# Altium footprint library SparkFun-Boards.PCBLIB: 38 footprints (part 2 of 3)
Each footprint in its own frame and in the unit in brackets; x right, y up, seen from the top. Pads: shape width x height; smd on the part's side, far side on the other; paste and mask are expansions set on the pad; w line width, h text height; cw(c..) or ccw(c..) is an arc to the next point about the centre after c.
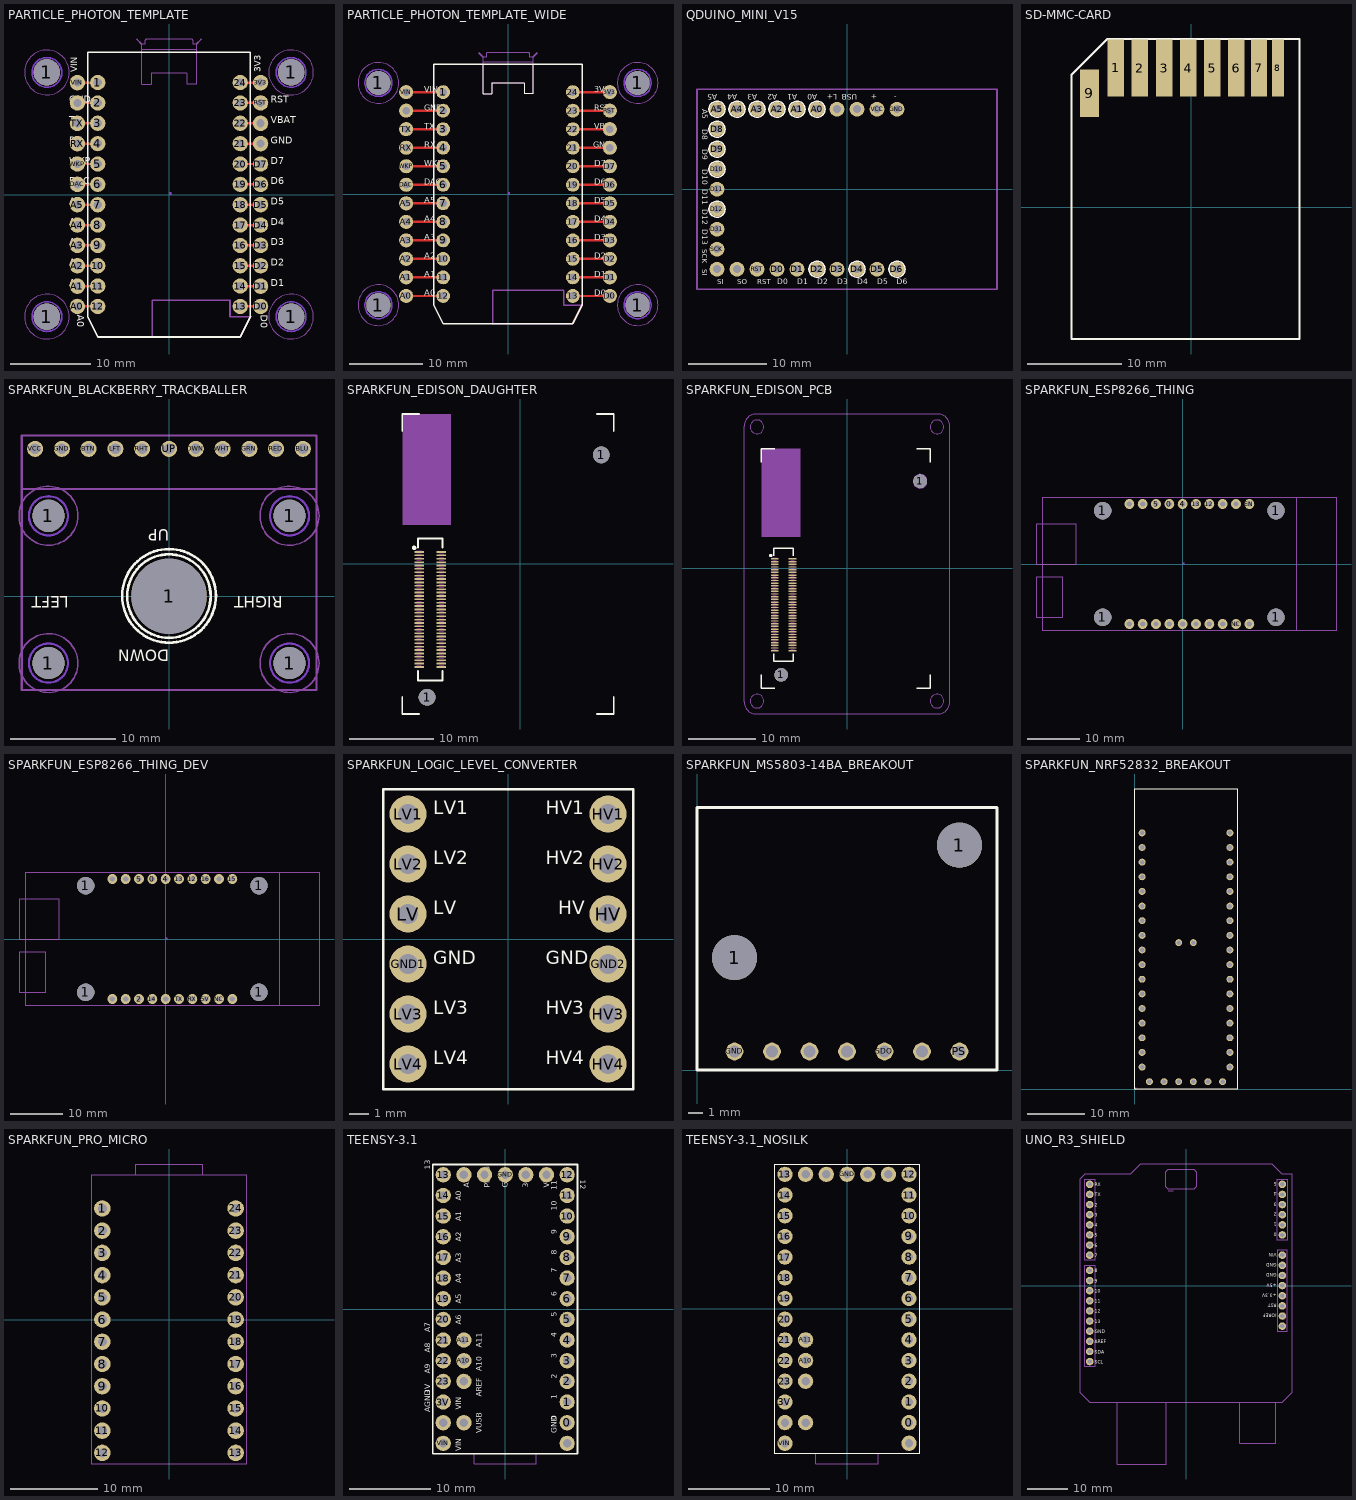
[diagram p1: the footprints below, top view; thin cyan lines are the x and y axes]

## PARTICLE_PHOTON_TEMPLATE [mil]
pads (52):
  round 130 hole 130: 1(-600,-600) 1(-600,600) 1(600,-600) 1(600,600)
  round 75 hole 40: 1(-350,550) 2(-350,450) 3(-350,350) 4(-350,250) 5(-350,150) 6(-350,50) 7(-350,-50) 8(-350,-150) 9(-350,-250) 10(-350,-350) 11(-350,-450) 12(-350,-550) 13(350,-550) 14(350,-450) 15(350,-350) 16(350,-250) 17(350,-150) 18(350,-50) 19(350,50) 20(350,150) 21(350,250) 22(350,350) 23(350,450) 24(350,550)
  round 76 hole 40: 3V3(450,550) A0(-450,-550) A1(-450,-450) A2(-450,-350) A3(-450,-250) A4(-450,-150) A5(-450,-50) D0(450,-550) D1(450,-450) D2(450,-350) D3(450,-250) D4(450,-150) D5(450,-50) D6(450,50) D7(450,150) DAC(-450,50) GND@0(-450,450) GND@2(450,250) RST(450,450) RX(-450,250) TX(-450,350) VBAT(450,350) VIN(-450,550) WKP(-450,150)
Top Layer:
  lines w12: -450,-550 -350,-550 ; -450,-450 -350,-450 ; -450,-350 -350,-350 ; -450,-250 -350,-250 ; -450,-150 -350,-150 ; -450,-50 -350,-50 ; -450,50 -350,50 ; -450,150 -350,150 ; -450,250 -350,250 ; -450,350 -350,350 ; -450,450 -350,450 ; -450,550 -350,550 ; 350,-550 450,-550 ; 350,-450 450,-450 ; 350,-350 450,-350 ; 350,-250 450,-250 ; 350,-150 450,-150 ; 350,-50 450,-50 ; 350,50 450,50 ; 350,150 450,150 ; 350,250 450,250 ; 350,350 450,350 ; 350,450 450,450 ; 350,550 450,550
Top Layer keep-out:
  region: 0,0 10,0 10,10 0,10
  lines w8: -600,-673 ccw(c-600,-600) -600,-527 ccw(c-600,-600) -600,-673 ; -600,527 ccw(c-600,600) -600,673 ccw(c-600,600) -600,527 ; 600,-673 ccw(c600,-600) 600,-527 ccw(c600,-600) 600,-673 ; 600,527 ccw(c600,600) 600,673 ccw(c600,600) 600,527
Bottom Layer keep-out:
  region: 0,0 10,0 10,10 0,10
  lines w8: -600,-673 ccw(c-600,-600) -600,-527 ccw(c-600,-600) -600,-673 ; -600,527 ccw(c-600,600) -600,673 ccw(c-600,600) -600,527 ; 600,-673 ccw(c600,-600) 600,-527 ccw(c600,-600) 600,-673 ; 600,527 ccw(c600,600) 600,673 ccw(c600,600) 600,527
Top Overlay:
  lines w8: 350,-700 -350,-700 -400,-600 -400,700 400,700 400,-600 400,-520
  lines w10: 350,-700 400,-600
  text "GND" at -490,450 h34
  text "TX" at -490,350 h34
  text "RX" at -490,250 h34
  text "WKP" at -490,150 h34
  text "DAC" at -490,50 h34
  text "A5" at -490,-50 h34
  text "A4" at -490,-150 h34
  text "A3" at -490,-250 h34
  text "A2" at -490,-350 h34
  text "A1" at -490,-450 h34
  text "D1" at 500,-450 h34
  text "D2" at 500,-350 h34
  text "D3" at 500,-250 h34
  text "D4" at 500,-150 h34
  text "D5" at 500,-50 h34
  text "D6" at 500,50 h34
  text "D7" at 500,150 h34
  text "GND" at 500,250 h34
  text "VBAT" at 500,350 h34
  text "RST" at 500,450 h34
  text "3V3" at 450,600 h32.3
  text "VIN" at -450,600 h32.3
  text "A0" at -450,-590 h34
  text "D0" at 450,-590 h34
Bottom Overlay:
  text "VIN" at -450,600 h32.3
  text "GND" at -500,450 h34
  text "TX" at -500,350 h34
  text "RX" at -500,250 h34
  text "WKP" at -500,150 h34
  text "DAC" at -500,50 h34
  text "A5" at -500,-50 h34
  text "A4" at -500,-150 h34
  text "A3" at -500,-250 h34
  text "A2" at -500,-350 h34
  text "A1" at -500,-450 h34
  text "D1" at 490,-450 h34
  text "D2" at 490,-350 h34
  text "D3" at 490,-250 h34
  text "D4" at 490,-150 h34
  text "D5" at 490,-50 h34
  text "D6" at 490,50 h34
  text "D7" at 490,150 h34
  text "GND" at 490,250 h34
  text "VBAT" at 490,350 h34
  text "RST" at 490,450 h34
  text "3V3" at 450,600 h32.3
  text "A0" at -450,-590 h34
  text "D0" at 450,-590 h34
Mechanical 16:
  lines w5: -133.86,711.02 -133.86,541.73 -86.61,541.73 -86.61,596.85 86.61,596.85 86.61,541.73 133.86,541.73 133.86,711.02 ; -133.86,711.02 -133.86,738.58 -118.11,738.58 -118.11,756.3 cw(c-108.86,754.82) -108.27,764.17 110.24,764.17 cw(c108.76,754.92) 118.11,754.33 118.11,738.58 133.86,738.58 133.86,711.02 ; -133.86,711.02 133.86,711.02
  lines w8: -157.48,762.2 -133.86,738.58 ; 133.86,738.58 157.48,762.2 ; -82,-700 -82,-520 300,-520 300,-600 400,-600 350,-700 -82,-700
  text "Keepout'" at 150,-600 h34
  text "A0" at -270,-576 h27.2
  text "A1" at -270,-466 h27.2
  text "A2" at -270,-376 h27.2
  text "RX" at -270,223 h27.2
  text "A4" at -270,-176 h27.2
  text "A3" at -270,-274 h27.2
  text "A5" at -270,-76 h27.2
  text "DAC" at -269,1 h27.2
  text "WKP" at -270,114 h27.2
  text "D0" at 269,-524 h27.2
  text "D1" at 269,-427 h27.2
  text "D2" at 269,-324 h27.2
  text "D3" at 269,-224 h27.2
  text "D4" at 269,-123 h27.2
  text "D5" at 269,-24 h27.2
  text "D6" at 269,76 h27.2
  text "D7" at 269,176 h27.2
  text "GND" at 268,284 h27.2
  text "VBAT" at 269,404 h25.5
  text "RST" at 268,495 h27.2
  text "3V3" at 269,592 h27.2
  text "TX" at -270,325 h27.2
  text "GND" at -270,409 h27.2
  text "VIN" at -270,513 h27.2
Mechanical 27:
  circle w5: c-600,600 r110
  circle w5: c600,600 r110
  circle w5: c-600,-600 r110
  circle w5: c600,-600 r110

## PARTICLE_PHOTON_TEMPLATE_WIDE [mil]
pads (52):
  round 130 hole 130: 1(-700,-600) 1(-700,600) 1(700,-600) 1(700,600)
  round 75 hole 40: 1(-350,550) 2(-350,450) 3(-350,350) 4(-350,250) 5(-350,150) 6(-350,50) 7(-350,-50) 8(-350,-150) 9(-350,-250) 10(-350,-350) 11(-350,-450) 12(-350,-550) 13(350,-550) 14(350,-450) 15(350,-350) 16(350,-250) 17(350,-150) 18(350,-50) 19(350,50) 20(350,150) 21(350,250) 22(350,350) 23(350,450) 24(350,550)
  round 76 hole 40: 3V3(550,550) A0(-550,-550) A1(-550,-450) A2(-550,-350) A3(-550,-250) A4(-550,-150) A5(-550,-50) D0(550,-550) D1(550,-450) D2(550,-350) D3(550,-250) D4(550,-150) D5(550,-50) D6(550,50) D7(550,150) DAC(-550,50) GND@0(-550,450) GND@2(550,250) RST(550,450) RX(-550,250) TX(-550,350) VBAT(550,350) VIN(-550,550) WKP(-550,150)
Top Layer:
  lines w12: -550,-550 -350,-550 ; -550,-450 -350,-450 ; -550,-350 -350,-350 ; -550,-250 -350,-250 ; -550,-150 -350,-150 ; -550,-50 -350,-50 ; -550,50 -350,50 ; -550,150 -350,150 ; -550,250 -350,250 ; -550,350 -350,350 ; -550,450 -350,450 ; -550,550 -350,550 ; 350,-550 550,-550 ; 350,-450 550,-450 ; 350,-350 550,-350 ; 350,-250 550,-250 ; 350,-150 550,-150 ; 350,-50 550,-50 ; 350,50 550,50 ; 350,150 550,150 ; 350,250 550,250 ; 350,350 550,350 ; 350,450 550,450 ; 350,550 550,550
Top Layer keep-out:
  region: 0,0 10,0 10,10 0,10
  lines w8: -700,-673 ccw(c-700,-600) -700,-527 ccw(c-700,-600) -700,-673 ; -700,527 ccw(c-700,600) -700,673 ccw(c-700,600) -700,527 ; 700,-673 ccw(c700,-600) 700,-527 ccw(c700,-600) 700,-673 ; 700,527 ccw(c700,600) 700,673 ccw(c700,600) 700,527
Bottom Layer keep-out:
  region: 0,0 10,0 10,10 0,10
  lines w8: -700,-673 ccw(c-700,-600) -700,-527 ccw(c-700,-600) -700,-673 ; -700,527 ccw(c-700,600) -700,673 ccw(c-700,600) -700,527 ; 700,-673 ccw(c700,-600) 700,-527 ccw(c700,-600) 700,-673 ; 700,527 ccw(c700,600) 700,673 ccw(c700,600) 700,527
Top Overlay:
  lines w5: -133.86,700 -133.86,541.73 -86.61,541.73 -86.61,596.85 86.61,596.85 86.61,541.73 133.86,541.73 133.86,700
  lines w8: 350,-700 -350,-700 -400,-600 -400,700 -133.86,700 133.86,700 400,700 400,-600 400,-520
  lines w10: 350,-700 400,-600
  text "GND" at -452.5,450 h32.3
  text "TX" at -452.5,350 h34
  text "RX" at -452.5,250 h34
  text "WKP" at -452.5,150 h32.3
  text "DAC" at -452.5,50 h32.3
  text "A5" at -452.5,-50 h34
  text "A4" at -452.5,-150 h34
  text "A3" at -452.5,-250 h34
  text "A2" at -452.5,-350 h34
  text "A1" at -452.5,-450 h34
  text "D1" at 465,-450 h34
  text "D2" at 465,-350 h34
  text "D3" at 465,-250 h34
  text "D4" at 465,-150 h34
  text "D5" at 465,-50 h34
  text "D6" at 465,50 h34
  text "D7" at 465,150 h34
  text "GND" at 460,250 h32.3
  text "VBT" at 465,350 h32.3
  text "RST" at 465,450 h32.3
  text "A0" at -452.5,-550 h34
  text "VIN" at -452.5,550 h32.3
  text "3V3" at 465,550 h32.3
  text "D0" at 465,-550 h34
Bottom Overlay:
  text "GND" at -455,450 h32.3
  text "TX" at -455,350 h34
  text "RX" at -455,250 h34
  text "WKP" at -455,150 h34
  text "DAC" at -455,50 h34
  text "A5" at -455,-50 h34
  text "A4" at -455,-150 h34
  text "A3" at -455,-250 h34
  text "A2" at -455,-350 h34
  text "A1" at -455,-450 h34
  text "D1" at 455,-450 h34
  text "D2" at 455,-350 h34
  text "D3" at 455,-250 h34
  text "D4" at 455,-150 h34
  text "D5" at 455,-50 h34
  text "D6" at 455,50 h34
  text "D7" at 455,150 h34
  text "GND" at 455,250 h32.3
  text "VBAT" at 450,350 h27.2
  text "RST" at 455,450 h34
  text "A0" at -455,-550 h34
  text "VIN" at -455,550 h34
  text "3V3" at 455,550 h34
  text "D0" at 455,-550 h34
Mechanical 16:
  lines w5: -133.86,711.02 -133.86,541.73 -86.61,541.73 -86.61,596.85 86.61,596.85 86.61,541.73 133.86,541.73 133.86,711.02 ; -133.86,711.02 -133.86,738.58 -118.11,738.58 -118.11,756.3 cw(c-108.86,754.82) -108.27,764.17 110.24,764.17 cw(c108.76,754.92) 118.11,754.33 118.11,738.58 133.86,738.58 133.86,711.02 ; -133.86,711.02 133.86,711.02
  lines w8: -157.48,762.2 -133.86,738.58 ; 133.86,738.58 157.48,762.2 ; -82,-700 -82,-520 300,-520 300,-600 400,-600 350,-700 -82,-700
  text "Keepout'" at 150,-600 h34
  text "A0" at -270,-576 h27.2
  text "A1" at -270,-466 h27.2
  text "A2" at -270,-376 h27.2
  text "RX" at -270,223 h27.2
  text "A4" at -270,-176 h27.2
  text "A3" at -270,-274 h27.2
  text "A5" at -270,-76 h27.2
  text "DAC" at -269,1 h27.2
  text "WKP" at -270,114 h27.2
  text "D0" at 269,-524 h27.2
  text "D1" at 269,-427 h27.2
  text "D2" at 269,-324 h27.2
  text "D3" at 269,-224 h27.2
  text "D4" at 269,-123 h27.2
  text "D5" at 269,-24 h27.2
  text "D6" at 269,76 h27.2
  text "D7" at 269,176 h27.2
  text "GND" at 268,284 h27.2
  text "VBAT" at 269,404 h25.5
  text "RST" at 268,495 h27.2
  text "3V3" at 269,592 h27.2
  text "TX" at -270,325 h27.2
  text "GND" at -270,409 h27.2
  text "VIN" at -270,513 h27.2
Mechanical 27:
  circle w5: c-700,600 r110
  circle w5: c700,600 r110
  circle w5: c-700,-600 r110
  circle w5: c700,-600 r110

## QDUINO_MINI_V15 [mil]
pads (27):
  round 74 hole 40: A0(-150,400) A1(-250,400) A2(-350,400) A3(-450,400) A4(-550,400) A5(-650,400) D0(-350,-400) D1(-250,-400) D2(-150,-400) D3(-50,-400) D4(50,-400) D5(150,-400) D6(250,-400) D8(-650,300) D9(-650,200) D10(-650,100) D11(-650,0) D12(-650,-100) D31(-650,-200) GND(250,400) LIPO(-50,400) MISO(-550,-400) MOSI(-650,-400) RST(-450,-400) SCK(-650,-300) VCC(150,400) VUSB(50,400)
Top Overlay:
  circle w8: c-650,200 r40
  circle w8: c-650,100 r40
  circle w8: c-650,-100 r40
  circle w8: c250,-400 r40
  circle w8: c-650,300 r40
  circle w8: c-150,-400 r40
  circle w8: c-150,400 r40
  circle w8: c-250,400 r40
  circle w8: c-350,400 r40
  circle w8: c-450,400 r40
  circle w8: c-550,400 r40
  circle w8: c-650,400 r40
  circle w8: c50,-400 r40
  text "A5" at -650,475 h27.2
  text "A4" at -550,475 h27.2
  text "A3" at -450,475 h27.2
  text "A2" at -350,475 h27.2
  text "A1" at -250,475 h27.2
  text "A0" at -150,475 h27.2
  text "L+" at -50,475 h27.2
  text "USB" at 50,475 h27.2
  text "+" at 150,475 h27.2
  text "-" at 250,475 h27.2
  text "D8" at -725,300 h27.2
  text "D9" at -725,200 h27.2
  text "D10" at -725,100 h27.2
  text "D11" at -725,0 h27.2
  text "D12" at -725,-100 h27.2
  text "D13" at -725,-200 h27.2
  text "SCK" at -725,-300 h25.5
  text "SI" at -650,-475 h25.5
  text "SO" at -550,-475 h25.5
  text "D0" at -350,-475 h27.2
  text "D1" at -250,-475 h27.2
  text "D2" at -150,-475 h27.2
  text "D3" at -50,-475 h27.2
  text "D4" at 50,-475 h27.2
  text "D5" at 150,-475 h27.2
  text "D6" at 250,-475 h27.2
  text "A5" at -725,400 h27.2
  text "RST" at -450,-475 h25.5
  text "SI" at -725,-400 h25.5
Bottom Overlay:
  drawing of 186 lines, arcs and shapes, not listed
  text "A4" at -550,336.5 h27.2
  text "A3" at -450,336.5 h27.2
  text "A2" at -350,336.5 h27.2
  text "A1" at -250,336.5 h27.2
  text "A0" at -150,336.5 h27.2
  text "VCC" at 150,336.5 h27.2
  text "GND" at 250,336.5 h27.2
  text "D9" at -561.5,200 h27.2
  text "D10" at -536.5,85 h27.2
  text "D11" at -536.5,0 h27.2
  text "D12" at -536.5,-96.5 h27.2
  text "RST" at -450,-336.5 h27.2
  text "RX" at -340,-336.5 h27.2
  text "TX" at -250,-336.5 h27.2
  text "SDA" at -150,-336.5 h27.2
  text "SCL" at -50,-336.5 h27.2
  text "D4" at 50,-316.5 h27.2
  text "D5" at 150,-306.5 h27.2
  text "D6" at 250,-336.5 h27.2
  text "Qduino Mini" at 595,10 h59.5
  text "USB+" at 50,336.5 h27.2
  text "LIPO+" at -50,336.5 h27.2
  text "I2C" at -105,-110 h27.2
  text "UART" at -305,-155 h27.2
  text "~" at -480,70 h27.2
  text "~" at -525,205 h27.2
  text "~" at 235,-255 h27.2
  text "~" at 135,-225 h27.2
  text "Analog ADC" at 405,-330 h27.2
  text "~" at 350,-365 h27.2
  text "PWM" at 360,-430 h27.2
  text "D13" at -536.5,-161.5 h27.2
  text "~" at -485,-175 h27.2
  text "~" at -480,-15 h27.2
  text "SPI" at -550,-300 h27.2
  text "~" at -60,-240 h27.2
  text "D8" at -725,300 h27.2
  text "D9" at -725,200 h27.2
  text "D10" at -725,100 h27.2
  text "D11" at -725,0 h27.2
  text "D12" at -725,-100 h27.2
  text "D13" at -725,-200 h27.2
  text "SCK" at -725,-300 h25.5
  text "A5" at -725,400 h27.2
  text "SI" at -725,-400 h25.5
  text "SI" at -650,-475 h25.5
  text "SO" at -550,-475 h25.5
  text "D0" at -350,-475 h27.2
  text "D1" at -250,-475 h27.2
  text "D2" at -150,-475 h27.2
  text "D3" at -50,-475 h27.2
  text "D4" at 50,-475 h27.2
  text "D5" at 150,-475 h27.2
  text "D6" at 250,-475 h27.2
  text "RST" at -450,-475 h25.5
  text "A5" at -650,475 h27.2
  text "A4" at -550,475 h27.2
  text "A3" at -450,475 h27.2
  text "A2" at -350,475 h27.2
  text "A1" at -250,475 h27.2
  text "A0" at -150,475 h27.2
  text "L+" at -40,475 h27.2
  text "USB" at 50,475 h27.2
  text "+" at 150,475 h27.2
  text "-" at 250,475 h27.2
Mechanical 16:
  rectangle: -60,390 -40,410
  rectangle: -160,390 -140,410
  rectangle: -260,390 -240,410
  rectangle: -360,390 -340,410
  rectangle: -460,390 -440,410
  rectangle: -560,390 -540,410
  rectangle: -660,390 -640,410
  rectangle: 40,390 60,410
  rectangle: 140,390 160,410
  rectangle: 240,390 260,410
  rectangle: -60,-410 -40,-390
  rectangle: -160,-410 -140,-390
  rectangle: -260,-410 -240,-390
  rectangle: -360,-410 -340,-390
  rectangle: -460,-410 -440,-390
  rectangle: -560,-410 -540,-390
  rectangle: -660,-410 -640,-390
  rectangle: 40,-410 60,-390
  rectangle: 140,-410 160,-390
  rectangle: 240,-410 260,-390
  region: -640,290 -640,310 -660,310 -660,290
  region: -640,190 -640,210 -660,210 -660,190
  region: -640,90 -640,110 -660,110 -660,90
  region: -640,-10 -640,10 -660,10 -660,-10
  region: -640,-110 -640,-90 -660,-90 -660,-110
  region: -640,-210 -640,-190 -660,-190 -660,-210
  region: -640,-310 -640,-290 -660,-290 -660,-310
  lines w8: -750,-500 -750,500 750,500 750,-500 -750,-500

## SD-MMC-CARD [mm]
pads (9):
  rect 1.75x6 smd: 1(-8.015,14.713) 2(-5.465,14.703) 3(-2.87,14.703) 4(-0.34,14.703) 5(2.195,14.703) 6(4.76,14.703)
  rect 1.65x6 smd: 7(7.16,14.703)
  rect 1.25x6 smd: 8(9.16,14.703)
  rect 2x5 smd: 9(-10.8,12.03)
Top Overlay:
  lines w0.203: -12.7,14.03 -12.7,-13.97 ; 11.3,-13.97 -12.7,-13.97 ; -12.7,-13.97 -12.7,13.97 -8.89,17.78 11.43,17.78 11.43,-13.97 -12.7,-13.97

## SPARKFUN_BLACKBERRY_TRACKBALLER [mil]
pads (16):
  round 120 hole 120: 1(-450,-250) 1(-450,300) 1(450,-250) 1(450,300)
  round 281.25 hole 281.25: 1(0,0)
  round 60 hole 40: BLU(500,550) BTN(-300,550) DWN(100,550) GND(-400,550) GRN(300,550) LFT(-200,550) RED(400,550) RHT(-100,550) UP(0,550) VCC(-500,550) WHT(200,550)
Top Layer keep-out:
  lines w8: -450,-323 ccw(c-450,-250) -450,-177 ccw(c-450,-250) -450,-323 ; -450,227 ccw(c-450,300) -450,373 ccw(c-450,300) -450,227 ; 450,-323 ccw(c450,-250) 450,-177 ccw(c450,-250) 450,-323 ; 450,227 ccw(c450,300) 450,373 ccw(c450,300) 450,227
Bottom Layer keep-out:
  lines w8: -450,-323 ccw(c-450,-250) -450,-177 ccw(c-450,-250) -450,-323 ; -450,227 ccw(c-450,300) -450,373 ccw(c-450,300) -450,227 ; 450,-323 ccw(c450,-250) 450,-177 ccw(c450,-250) 450,-323 ; 450,227 ccw(c450,300) 450,373 ccw(c450,300) 450,227
Top Overlay:
  circle w10: c-0.3,0.1 r155.9
  circle w10: c0.3,1.1 r174.97
  region: 0,0 10,0 10,10 0,10
  region: 0,0 10,0 10,10 0,10
  text "UP" at 0,250 h42.5
  text "RIGHT" at 425,0 h42.5
  text "LEFT" at -375,0 h42.5
  text "DOWN" at 0,-200 h42.5
Mechanical 16:
  lines w8: -550,400 550,400 ; -550,400 -550,-350 550,-350 550,400 ; -550,400 -550,600 550,600 550,400
  text "Top Mounting Board" at 0,-300 h34
  text "Bottom Mounting Board" at 0,450 h34
Mechanical 27:
  circle w5: c-450,300 r110
  circle w5: c450,300 r110
  circle w5: c-450,-250 r110
  circle w5: c450,-250 r110

## SPARKFUN_EDISON_DAUGHTER [mm]
pads (72):
  rect 1.14x0.2 smd: 1(-11.99,1.39) 2(-9.35,1.39) 3(-11.99,0.99) 4(-9.35,0.99) 5(-11.99,0.59) 6(-9.35,0.59) 7(-11.99,0.19) 8(-9.35,0.19) 9(-11.99,-0.21) 10(-9.35,-0.21) 11(-11.99,-0.61) 12(-9.35,-0.61) 13(-11.99,-1.01) 14(-9.35,-1.01) 15(-11.99,-1.41) 16(-9.35,-1.41) 17(-11.99,-1.81) 18(-9.35,-1.81) 19(-11.99,-2.21) 20(-9.35,-2.21) 21(-11.99,-2.61) 22(-9.35,-2.61) 23(-11.99,-3.01) 24(-9.35,-3.01) 25(-11.99,-3.41) 26(-9.35,-3.41) 27(-11.99,-3.81) 28(-9.35,-3.81) 29(-11.99,-4.21) 30(-9.35,-4.21) 31(-11.99,-4.61) 32(-9.35,-4.61) 33(-11.99,-5.01) 34(-9.35,-5.01) 35(-11.99,-5.41) 36(-9.35,-5.41) 37(-11.99,-5.81) 38(-9.35,-5.81) 39(-11.99,-6.21) 40(-9.35,-6.21) 41(-11.99,-6.61) 42(-9.35,-6.61) 43(-11.99,-7.01) 44(-9.35,-7.01) 45(-11.99,-7.41) 46(-9.35,-7.41) 47(-11.99,-7.81) 48(-9.35,-7.81) 49(-11.99,-8.21) 50(-9.35,-8.21) 51(-11.99,-8.61) 52(-9.35,-8.61) 53(-11.99,-9.01) 54(-9.35,-9.01) 55(-11.99,-9.41) 56(-9.35,-9.41) 57(-11.99,-9.81) 58(-9.35,-9.81) 59(-11.99,-10.21) 60(-9.35,-10.21) 61(-11.99,-10.61) 62(-9.35,-10.61) 63(-11.99,-11.01) 64(-9.35,-11.01) 65(-11.99,-11.41) 66(-9.35,-11.41) 67(-11.99,-11.81) 68(-9.35,-11.81) 69(-11.99,-12.21) 70(-9.35,-12.21)
  round 2 hole 2: 1(-11.04,-15.8) 1(9.56,12.89)
Top Layer keep-out:
  lines w0.025: -12.307,1.539 -11.673,1.539
  lines w0.051: -12.246,-12.01 -11.734,-12.01 ; -12.246,-11.61 -11.734,-11.61 ; -12.246,-11.21 -11.734,-11.21 ; -12.246,-10.81 -11.734,-10.81 ; -12.246,-10.41 -11.734,-10.41 ; -12.246,-10.01 -11.734,-10.01 ; -12.246,-9.61 -11.734,-9.61 ; -12.246,-9.21 -11.734,-9.21 ; -12.246,-8.81 -11.734,-8.81 ; -12.246,-8.41 -11.734,-8.41 ; -12.246,-8.01 -11.734,-8.01 ; -12.246,-7.61 -11.734,-7.61 ; -12.246,-7.21 -11.734,-7.21 ; -12.246,-6.81 -11.734,-6.81 ; -12.246,-6.41 -11.734,-6.41 ; -12.246,-6.01 -11.734,-6.01 ; -12.246,-5.61 -11.734,-5.61 ; -12.246,-5.21 -11.734,-5.21 ; -12.246,-4.81 -11.734,-4.81 ; -12.246,-4.41 -11.734,-4.41 ; -12.246,-4.01 -11.734,-4.01 ; -12.246,-3.61 -11.734,-3.61 ; -12.246,-3.21 -11.734,-3.21 ; -12.246,-2.81 -11.734,-2.81 ; -12.246,-2.41 -11.734,-2.41 ; -12.246,-2.01 -11.734,-2.01 ; -12.246,-1.61 -11.734,-1.61 ; -12.246,-1.21 -11.734,-1.21 ; -12.246,-0.81 -11.734,-0.81 ; -12.246,-0.41 -11.734,-0.41 ; -12.246,-0.01 -11.734,-0.01 ; -12.246,0.39 -11.734,0.39 ; -12.246,0.79 -11.734,0.79 ; -12.246,1.19 -11.734,1.19 ; -9.601,-12.01 -9.089,-12.01 ; -9.601,-11.61 -9.089,-11.61 ; -9.601,-11.21 -9.089,-11.21 ; -9.601,-10.81 -9.089,-10.81 ; -9.601,-10.41 -9.089,-10.41 ; -9.601,-10.01 -9.089,-10.01 ; -9.601,-9.61 -9.089,-9.61 ; -9.601,-9.21 -9.089,-9.21 ; -9.601,-8.81 -9.089,-8.81 ; -9.601,-8.41 -9.089,-8.41 ; -9.601,-8.01 -9.089,-8.01 ; -9.601,-7.61 -9.089,-7.61 ; -9.601,-7.21 -9.089,-7.21 ; -9.601,-6.81 -9.089,-6.81 ; -9.601,-6.41 -9.089,-6.41 ; -9.601,-6.01 -9.089,-6.01 ; -9.601,-5.61 -9.089,-5.61 ; -9.601,-5.21 -9.089,-5.21 ; -9.601,-4.81 -9.089,-4.81 ; -9.601,-4.41 -9.089,-4.41 ; -9.601,-4.01 -9.089,-4.01 ; -9.601,-3.61 -9.089,-3.61 ; -9.601,-3.21 -9.089,-3.21 ; -9.601,-2.81 -9.089,-2.81 ; -9.601,-2.41 -9.089,-2.41 ; -9.601,-2.01 -9.089,-2.01 ; -9.601,-1.61 -9.089,-1.61 ; -9.601,-1.21 -9.089,-1.21 ; -9.601,-0.81 -9.089,-0.81 ; -9.601,-0.41 -9.089,-0.41 ; -9.601,-0.01 -9.089,-0.01 ; -9.601,0.39 -9.089,0.39 ; -9.601,0.79 -9.089,0.79 ; -9.601,1.19 -9.089,1.19
Top Overlay:
  circle w0.305: c-12.57,1.89 r0.1
  lines w0.203: -13.97,-15.78 -13.97,-17.78 -11.97,-17.78 ; -13.97,15.72 -13.97,17.72 -11.97,17.72 ; -12.11,-12.7 -12.11,-13.81 -9.23,-13.81 -9.23,-12.7 ; -12.11,1.88 -12.11,2.99 -9.23,2.99 -9.23,1.88 ; 9.03,-17.78 11.03,-17.78 11.03,-15.78 ; 9.03,17.72 11.03,17.72 11.03,15.72
Mechanical 27:
  region: -8.19,17.72 -13.97,17.72 -13.97,4.61 -8.19,4.61
Mechanical 28:
  region: -8.19,17.72 -13.97,17.72 -13.97,4.61 -8.19,4.61

## SPARKFUN_EDISON_PCB [mm]
pads (72):
  rect 1.14x0.2 smd: 1(-10.72,1.39) 2(-8.08,1.39) 3(-10.72,0.99) 4(-8.08,0.99) 5(-10.72,0.59) 6(-8.08,0.59) 7(-10.72,0.19) 8(-8.08,0.19) 9(-10.72,-0.21) 10(-8.08,-0.21) 11(-10.72,-0.61) 12(-8.08,-0.61) 13(-10.72,-1.01) 14(-8.08,-1.01) 15(-10.72,-1.41) 16(-8.08,-1.41) 17(-10.72,-1.81) 18(-8.08,-1.81) 19(-10.72,-2.21) 20(-8.08,-2.21) 21(-10.72,-2.61) 22(-8.08,-2.61) 23(-10.72,-3.01) 24(-8.08,-3.01) 25(-10.72,-3.41) 26(-8.08,-3.41) 27(-10.72,-3.81) 28(-8.08,-3.81) 29(-10.72,-4.21) 30(-8.08,-4.21) 31(-10.72,-4.61) 32(-8.08,-4.61) 33(-10.72,-5.01) 34(-8.08,-5.01) 35(-10.72,-5.41) 36(-8.08,-5.41) 37(-10.72,-5.81) 38(-8.08,-5.81) 39(-10.72,-6.21) 40(-8.08,-6.21) 41(-10.72,-6.61) 42(-8.08,-6.61) 43(-10.72,-7.01) 44(-8.08,-7.01) 45(-10.72,-7.41) 46(-8.08,-7.41) 47(-10.72,-7.81) 48(-8.08,-7.81) 49(-10.72,-8.21) 50(-8.08,-8.21) 51(-10.72,-8.61) 52(-8.08,-8.61) 53(-10.72,-9.01) 54(-8.08,-9.01) 55(-10.72,-9.41) 56(-8.08,-9.41) 57(-10.72,-9.81) 58(-8.08,-9.81) 59(-10.72,-10.21) 60(-8.08,-10.21) 61(-10.72,-10.61) 62(-8.08,-10.61) 63(-10.72,-11.01) 64(-8.08,-11.01) 65(-10.72,-11.41) 66(-8.08,-11.41) 67(-10.72,-11.81) 68(-8.08,-11.81) 69(-10.72,-12.21) 70(-8.08,-12.21)
  round 2 hole 2: 1(-9.77,-15.8) 1(10.83,12.89)
Top Layer keep-out:
  lines w0.025: -11.037,1.539 -10.403,1.539
  lines w0.051: -10.976,-12.01 -10.464,-12.01 ; -10.976,-11.61 -10.464,-11.61 ; -10.976,-11.21 -10.464,-11.21 ; -10.976,-10.81 -10.464,-10.81 ; -10.976,-10.41 -10.464,-10.41 ; -10.976,-10.01 -10.464,-10.01 ; -10.976,-9.61 -10.464,-9.61 ; -10.976,-9.21 -10.464,-9.21 ; -10.976,-8.81 -10.464,-8.81 ; -10.976,-8.41 -10.464,-8.41 ; -10.976,-8.01 -10.464,-8.01 ; -10.976,-7.61 -10.464,-7.61 ; -10.976,-7.21 -10.464,-7.21 ; -10.976,-6.81 -10.464,-6.81 ; -10.976,-6.41 -10.464,-6.41 ; -10.976,-6.01 -10.464,-6.01 ; -10.976,-5.61 -10.464,-5.61 ; -10.976,-5.21 -10.464,-5.21 ; -10.976,-4.81 -10.464,-4.81 ; -10.976,-4.41 -10.464,-4.41 ; -10.976,-4.01 -10.464,-4.01 ; -10.976,-3.61 -10.464,-3.61 ; -10.976,-3.21 -10.464,-3.21 ; -10.976,-2.81 -10.464,-2.81 ; -10.976,-2.41 -10.464,-2.41 ; -10.976,-2.01 -10.464,-2.01 ; -10.976,-1.61 -10.464,-1.61 ; -10.976,-1.21 -10.464,-1.21 ; -10.976,-0.81 -10.464,-0.81 ; -10.976,-0.41 -10.464,-0.41 ; -10.976,-0.01 -10.464,-0.01 ; -10.976,0.39 -10.464,0.39 ; -10.976,0.79 -10.464,0.79 ; -10.976,1.19 -10.464,1.19 ; -8.331,-12.01 -7.819,-12.01 ; -8.331,-11.61 -7.819,-11.61 ; -8.331,-11.21 -7.819,-11.21 ; -8.331,-10.81 -7.819,-10.81 ; -8.331,-10.41 -7.819,-10.41 ; -8.331,-10.01 -7.819,-10.01 ; -8.331,-9.61 -7.819,-9.61 ; -8.331,-9.21 -7.819,-9.21 ; -8.331,-8.81 -7.819,-8.81 ; -8.331,-8.41 -7.819,-8.41 ; -8.331,-8.01 -7.819,-8.01 ; -8.331,-7.61 -7.819,-7.61 ; -8.331,-7.21 -7.819,-7.21 ; -8.331,-6.81 -7.819,-6.81 ; -8.331,-6.41 -7.819,-6.41 ; -8.331,-6.01 -7.819,-6.01 ; -8.331,-5.61 -7.819,-5.61 ; -8.331,-5.21 -7.819,-5.21 ; -8.331,-4.81 -7.819,-4.81 ; -8.331,-4.41 -7.819,-4.41 ; -8.331,-4.01 -7.819,-4.01 ; -8.331,-3.61 -7.819,-3.61 ; -8.331,-3.21 -7.819,-3.21 ; -8.331,-2.81 -7.819,-2.81 ; -8.331,-2.41 -7.819,-2.41 ; -8.331,-2.01 -7.819,-2.01 ; -8.331,-1.61 -7.819,-1.61 ; -8.331,-1.21 -7.819,-1.21 ; -8.331,-0.81 -7.819,-0.81 ; -8.331,-0.41 -7.819,-0.41 ; -8.331,-0.01 -7.819,-0.01 ; -8.331,0.39 -7.819,0.39 ; -8.331,0.79 -7.819,0.79 ; -8.331,1.19 -7.819,1.19
Top Overlay:
  circle w0.305: c-11.3,1.89 r0.1
  lines w0.203: -12.7,-15.78 -12.7,-17.78 -10.7,-17.78 ; -12.7,15.72 -12.7,17.72 -10.7,17.72 ; -10.84,-12.7 -10.84,-13.81 -7.96,-13.81 -7.96,-12.7 ; -10.84,1.88 -10.84,2.99 -7.96,2.99 -7.96,1.88 ; 10.3,-17.78 12.3,-17.78 12.3,-15.78 ; 10.3,17.72 12.3,17.72 12.3,15.72
Mechanical 16:
  circle w0.127: c-13.335,-19.685 r1.016
  circle w0.127: c13.335,-19.685 r1.016
  circle w0.127: c10.83,12.89 r1.016
  circle w0.127: c-13.335,20.955 r1.016
  circle w0.127: c13.335,20.955 r1.016
  lines w0.127: -15.24,-19.812 -15.24,21.082 cw(c-13.462,21.082) -13.462,22.86 13.462,22.86 cw(c13.462,21.082) 15.24,21.082 15.24,-19.812 cw(c13.462,-19.812) 13.462,-21.59 -13.462,-21.59 cw(c-13.462,-19.812) -15.24,-19.812
Mechanical 27:
  region: -6.92,17.72 -12.7,17.72 -12.7,4.61 -6.92,4.61
Mechanical 28:
  region: -6.92,17.72 -12.7,17.72 -12.7,4.61 -6.92,4.61

## SPARKFUN_ESP8266_THING [mil]
pads (24):
  round 74 hole 40: 0(-100,450) 3.3V@1(-300,-450) 3.3V@2(300,-450) 4(0,450) 5(-200,450) 12(200,450) 13(100,450) ADC(400,450) DTR(0,-450) EN(500,450) GND@1(-400,-450) GND@2(500,-450) GND@3(-400,450) NC(400,-450) RXI(200,-450) SCL(-100,-450) SDA(-200,-450) TXO(100,-450) VIN(-300,450) XPD(300,450)
  round 130 hole 130: 1(-600,-400) 1(-600,400) 1(700,-400) 1(700,400)
Top Layer keep-out:
  region: 0,0 10,0 10,10 0,10
Bottom Layer keep-out:
  region: 0,0 10,0 10,10 0,10
Mechanical 14:
  lines w5: -1100,-100 -1100,-400 -900,-400 -900,-100 ; 850,-500 850,500 ; -1100,0 -1100,300 -800,300 -800,0 -1050,0 -1100,0
  text "Antenna" at 925,-200 h59.5
  text "JST" at -975,50 h59.5
  text "USB" at -975,-350 h59.5
Mechanical 16:
  lines w5: -1100,-100 -900,-100 ; -1050,-500 -1050,0 -1050,500 1150,500 1150,-500 -1050,-500

## SPARKFUN_ESP8266_THING_DEV [mil]
pads (24):
  round 74 hole 40: 0(-100,450) 2(-200,-450) 3.3V(-300,-450) 4(0,450) 5(-200,450) 5V(300,-450) 12(200,450) 13(100,450) 14(-100,-450) 15(500,450) 16(300,450) ADC(400,450) GND@1(-400,-450) GND@2(500,-450) GND@3(-400,450) NC(400,-450) RST(0,-450) RX(200,-450) TX(100,-450) VIN(-300,450)
  round 130 hole 130: 1(-600,-400) 1(-600,400) 1(700,-400) 1(700,400)
Top Layer keep-out:
  region: 0,0 10,0 10,10 0,10
Bottom Layer keep-out:
  region: 0,0 10,0 10,10 0,10
Mechanical 14:
  lines w5: 850,-500 850,500 ; -1100,-400 -900,-400 -900,-100 -1100,-100 -1100,-400 ; -1100,0 -1100,300 -800,300 -800,0 -1050,0 -1100,0
  text "Antenna" at 925,-200 h59.5
  text "USB" at -975,-350 h59.5
  text "JST" at -975,50 h59.5
Mechanical 16:
  lines w5: -1050,-500 -1050,0 -1050,500 1150,500 1150,-500 -1050,-500

## SPARKFUN_LOGIC_LEVEL_CONVERTER [mil]
pads (12):
  round 74 hole 40: GND1(-200,-50) GND2(200,-50) HV(200,50) HV1(200,250) HV2(200,150) HV3(200,-150) HV4(200,-250) LV(-200,50) LV1(-200,250) LV2(-200,150) LV3(-200,-150) LV4(-200,-250)
Top Overlay:
  lines w5: -250,-300 -250,300 250,300 250,-300 -250,-300
  text "LV1" at -150,250 h27.2
  text "LV2" at -150,150 h27.2
  text "HV1" at 75,250 h27.2
  text "HV2" at 75,150 h27.2
  text "LV" at -150,50 h27.2
  text "GND" at -150,-50 h27.2
  text "LV3" at -150,-150 h27.2
  text "LV4" at -150,-250 h27.2
  text "HV" at 100,50 h27.2
  text "GND" at 75,-50 h27.2
  text "HV3" at 75,-150 h27.2
  text "HV4" at 75,-250 h27.2

## SPARKFUN_MS5803-14BA_BREAKOUT [mil]
pads (9):
  round 120 hole 120: 1(100,300) 1(700,600)
  round 47.25 hole 31.5: 3.3V(200,50) AD/CS(600,50) GND(100,50) PS(700,50) SCL/SCLK(400,50) SDA/SDI(300,50) SDO(500,50)
Top Overlay:
  lines w8: 0,0 0,700 800,700 800,0 0,0

## SPARKFUN_NRF52832_BREAKOUT [mil]
pads (42):
  round 47.25 hole 31.5: 00/X1(650,450) 1-NFC(300,1000) 01/X2(650,550) 2-NFC(400,1000) 02/A0(650,650) 3.3V(50,350) 3.3V@1(650,350) 03/A1(650,750) 04/A2(650,850) 05/A3(650,950) 08(650,1050) 09(650,1150) 10(650,1250) 11(650,1350) 12(650,1450) 13(650,1550) 14(650,1650) 15(650,1750) 16(50,1750) 17(50,1650) 18(50,1550) 19(50,1450) 20(50,1350) 22(50,1250) 23(50,1150) 24(50,1050) 25(50,950) 26/RX(300,50) 27/TX(200,50) 28/A4(50,850) 29/A5(50,750) 30/A6(50,650) 31/A7(50,550) !RST(50,450) GND(50,150) GND1(600,50) GND2(650,150) P$1(100,50) P$5(500,50) VCC(400,50) VIN(50,250) VIN1(650,250)
Top Overlay:
  lines w8: 0,0 0,2050 700,2050 700,0 0,0
Mechanical 16:
  text "Antenna" at 200,1942.5 h42.5
  text "Keepout" at 200,1900 h42.5
Mechanical 27:
  region: 0,0 10,0 10,10 0,10
Mechanical 28:
  region: 0,0 10,0 10,10 0,10

## SPARKFUN_PRO_MICRO [mil]
pads (24):
  round 74 hole 40: 1(-300,500) 2(-300,400) 3(-300,300) 4(-300,200) 5(-300,100) 6(-300,0) 7(-300,-100) 8(-300,-200) 9(-300,-300) 10(-300,-400) 11(-300,-500) 12(-300,-600) 13(300,-600) 14(300,-500) 15(300,-400) 16(300,-300) 17(300,-200) 18(300,-100) 19(300,0) 20(300,100) 21(300,200) 22(300,300) 23(300,400) 24(300,500)
Mechanical 16:
  lines w5: -150,650 -150,700 150,700 150,650 ; -350,-650 -350,650 350,650 350,-650 -350,-650
  text "USB" at -50,650 h27.2

## TEENSY-3.1 [mil]
pads (37):
  round 74 hole 40: 0(300,-550) 1(300,-450) 2(300,-350) 3(300,-250) 3.3V(100,650) 3V(-300,-450) 4(300,-150) 5(300,-50) 6(300,50) 7(300,150) 8(300,250) 9(300,350) 10(300,450) 11(300,550) 12(300,650) 13(-300,650) 14(-300,550) 15(-300,450) 16(-300,350) 17(-300,250) 18(-300,150) 19(-300,50) 20(-300,-50) 21(-300,-150) 22(-300,-250) 23(-300,-350) A10(-200,-250) A11(-200,-150) A14/DAC(-200,650) AGND(-300,-550) AREF(-200,-350) GND(0,650) GND1(300,-650) PROG(-100,650) VBAT(200,650) VIN(-300,-650) VUSB(-200,-550)
Top Overlay:
  lines w8: -350,-700 -350,700 350,700 350,-700 -350,-700
  text "VIN" at -212.5,-687.5 h27.2
  text "VIN" at -212.5,-487.5 h27.2
  text "VUSB" at -112.5,-600 h27.2
  text "AREF" at -112.5,-425 h27.2
  text "A10" at -112.5,-300 h27.2
  text "A11" at -112.5,-187.5 h27.2
  text "A6" at -212.5,-75 h27.2
  text "A5" at -212.5,25 h27.2
  text "A4" at -212.5,125 h27.2
  text "A3" at -212.5,225 h27.2
  text "A2" at -212.5,325 h27.2
  text "A1" at -212.5,425 h27.2
  text "A0" at -212.5,525 h27.2
  text "11" at 250,575 h27.2
  text "10" at 250,475 h27.2
  text "9" at 250,362.5 h27.2
  text "8" at 250,262.5 h27.2
  text "7" at 250,175 h27.2
  text "6" at 250,62.5 h27.2
  text "5" at 250,-37.5 h27.2
  text "4" at 250,-137.5 h27.2
  text "3" at 250,-237.5 h27.2
  text "2" at 250,-337.5 h27.2
  text "1" at 250,-437.5 h27.2
  text "0" at 250,-537.5 h27.2
  text "GND" at 250,-600 h27.2
  text "A8" at -362.5,-212.5 h27.2
  text "A9" at -362.5,-312.5 h27.2
  text "AGND" at -362.5,-500 h27.2
  text "PROG" at -75,587.5 h27.2
  text "GND" at 12.5,587.5 h27.2
  text "3.3V" at 112.5,587.5 h27.2
  text "VBAT" at 212.5,587.5 h27.2
  text "A14" at -175,587.5 h27.2
  text "A7" at -362.5,-112.5 h27.2
  text "13" at -362.5,675 h27.2
  text "12" at 362.5,625 h27.2
  text "3V" at -362.5,-412.5 h27.2
Bottom Overlay:
  lines w5: -350,-700 -350,700 350,700 350,-700 -350,-700
  text "A8" at -362.5,-212.5 h27.2
  text "A9" at -362.5,-312.5 h27.2
  text "AGND" at -362.5,-500 h27.2
  text "A7" at -362.5,-112.5 h27.2
  text "13" at -362.5,675 h27.2
  text "3V" at -362.5,-412.5 h27.2
  text "VIN" at -212.5,-487.5 h27.2
  text "VUSB" at -112.5,-600 h27.2
  text "VIN" at -212.5,-687.5 h27.2
  text "AREF" at -112.5,-425 h27.2
  text "A10" at -112.5,-300 h27.2
  text "A11" at -112.5,-187.5 h27.2
  text "A6" at -212.5,-75 h27.2
  text "A5" at -212.5,25 h27.2
  text "A4" at -212.5,125 h27.2
  text "A3" at -212.5,225 h27.2
  text "A2" at -212.5,325 h27.2
  text "A1" at -212.5,425 h27.2
  text "A14" at -175,587.5 h27.2
  text "PROG" at -75,587.5 h27.2
  text "GND" at 12.5,587.5 h27.2
  text "3.3V" at 112.5,587.5 h27.2
  text "VBAT" at 212.5,587.5 h27.2
  text "12" at 362.5,625 h27.2
  text "GND" at 250,-600 h27.2
  text "0" at 250,-537.5 h27.2
  text "1" at 250,-437.5 h27.2
  text "2" at 250,-337.5 h27.2
  text "3" at 250,-237.5 h27.2
  text "4" at 250,-137.5 h27.2
  text "5" at 250,-37.5 h27.2
  text "6" at 250,62.5 h27.2
  text "7" at 250,175 h27.2
  text "8" at 250,262.5 h27.2
  text "9" at 250,362.5 h27.2
  text "10" at 250,475 h27.2
  text "11" at 250,575 h27.2
  text "A0" at -212.5,525 h27.2
Mechanical 16:
  lines w5: -150,-700 150,-700 ; -150,-700 -350,-700 -350,700 350,700 350,-700 150,-700 ; -150,-700 -150,-750 150,-750 150,-700

## TEENSY-3.1_NOSILK [mil]
pads (37):
  round 74 hole 40: 0(300,-550) 1(300,-450) 2(300,-350) 3(300,-250) 3.3V(100,650) 3V(-300,-450) 4(300,-150) 5(300,-50) 6(300,50) 7(300,150) 8(300,250) 9(300,350) 10(300,450) 11(300,550) 12(300,650) 13(-300,650) 14(-300,550) 15(-300,450) 16(-300,350) 17(-300,250) 18(-300,150) 19(-300,50) 20(-300,-50) 21(-300,-150) 22(-300,-250) 23(-300,-350) A10(-200,-250) A11(-200,-150) A14/DAC(-200,650) AGND(-300,-550) AREF(-200,-350) GND(0,650) GND1(300,-650) PROG(-100,650) VBAT(200,650) VIN(-300,-650) VUSB(-200,-550)
Top Overlay:
  lines w5: -350,-700 -350,700 350,700 350,-700 -350,-700
Bottom Overlay:
  lines w5: -350,-700 -350,700 350,700 350,-700 -350,-700
Mechanical 16:
  lines w5: -150,-700 150,-700 ; -150,-700 -350,-700 -350,700 350,700 350,-700 150,-700 ; -150,-700 -150,-750 150,-750 150,-700

## UNO_R3_SHIELD [mil]
pads (32):
  round 74 hole 40: 3.3V(950,-100) 5V(950,0) A0(950,500) A1(950,600) A2(950,700) A3(950,800) A4(950,900) A5(950,1000) AREF(-950,-550) D2(-950,800) D3(-950,700) D4(-950,600) D5(-950,500) D6(-950,400) D7(-950,300) D8(-950,150) D9(-950,50) D10(-950,-50) D11(-950,-150) D12(-950,-250) D13(-950,-350) GND@0(950,100) GND@1(950,200) GND@2(-950,-450) IOREF(950,-300) NC(950,-400) RES(950,-200) RX(-950,1000) SCL(-950,-750) SDA(-950,-650) TX(-950,900) VIN(950,300)
Top Overlay:
  text "GND" at 895.5,120 h34
  text "GND" at 895.5,220 h34
  text "+5V" at 895.5,20 h34
  text "RST" at 895.5,-180 h34
  text "VIN" at 895.5,320 h34
  text "+3.3V" at 895.5,-80 h34
  text "0" at 895.5,520 h34
  text "1" at 895.5,620 h34
  text "2" at 895.5,720 h34
  text "3" at 895.5,820 h34
  text "4" at 895.5,920 h34
  text "5" at 895.5,1020 h34
  text "GND" at -900,-470 h34
  text "13" at -900,-370 h34
  text "12" at -900,-270 h34
  text "11" at -900,-170 h34
  text "AREF" at -900,-570 h34
  text "10" at -900,-70 h34
  text "9" at -900,30 h34
  text "8" at -900,130 h34
  text "7" at -900,280 h34
  text "6" at -900,380 h34
  text "5" at -900,480 h34
  text "4" at -900,580 h34
  text "3" at -900,680 h34
  text "2" at -900,780 h34
  text "TX" at -900,880 h34
  text "RX" at -900,980 h34
  text "SDA" at -900,-670 h34
  text "SCL" at -900,-770 h34
  text "IOREF" at 895.5,-280 h34
Mechanical 16:
  lines w5: -1000,-800 -900,-800 -900,200 -1000,200 -1000,-800 ; -1000,250 -900,250 -900,1050 -1000,1050 -1000,250 ; 900,-450 1000,-450 1000,350 900,350 900,-450 ; 900,450 1000,450 1000,1050 900,1050 900,450
  lines w8: -175,930 -125,930
  lines w10: 532.68,-1153.94 532.68,-1555.51 887.01,-1555.51 887.01,-1153.94 ; -675.98,-1150 -950,-1150 -1050,-1050 -1050,1050 -1000,1100 -550,1100 -450,1200 850,1200 950,1100 1050,1100 1050,-1050 950,-1150 -195.67,-1150 ; -675.98,-1150 -195.67,-1150 ; -675.98,-1150 -675.98,-1760.24 -195.67,-1760.24 -195.67,-1150 ; -200,975 -175,950 75,950 100,975 100,1125 75,1150 -175,1150 -200,1125 -200,975
  text "RST" at 25,915 h17
  text "ISP" at -70,1040 h17
  text "USB" at -475,-1735 h17
  text "POWER JACK" at 625,-1535 h17